# Altium schematic symbol library MC34063AD.SchLib: 1 symbol
Pins are listed as number, name and electrical type; pins without a type are passive.

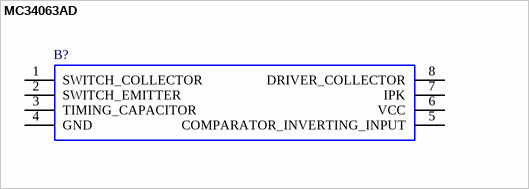
[diagram p0: symbol MC34063AD]

## MC34063AD
designator B?
Texas Instruments MC34063AD, Step-Down/Up DC-DC Converter, 1.5A, 1.55  40 V, 8-Pin SOIC; Geometry.Height: 1.75mm; Manufacturer_Name: Texas Instruments; Manufacturer_Part_Number: MC34063AD; Mouser Part Number: 595-MC34063AD; Mouser Price/Stock: https://www.mouser.co.uk/ProductDetail/Texas-Instruments/MC34063AD?qs=paYhMW8qfiu9F0uJ%2FIS%252Baw%3D%3D; Arrow Part Number: MC34063AD; Arrow Price/Stock: https://www.arrow.com/en/products/mc34063ad/texas-instruments?region=nac; Mouser Testing Part Number: *; Mouser Testing Price/Stock: *; Datasheet Link: http://www.ti.com/lit/gpn/mc34063a
footprint SOIC127P600X175-8N
pins: 1 SWITCH_COLLECTOR, 2 SWITCH_EMITTER, 3 TIMING_CAPACITOR, 4 GND, 5 COMPARATOR_INVERTING_INPUT, 6 VCC, 7 IPK, 8 DRIVER_COLLECTOR